# Altium footprint library CD4041UBM96.PcbLib: 1 footprints
Each footprint in its own frame and in the unit in brackets; x right, y up, seen from the top. Pads: shape width x height; smd on the part's side, far side on the other; paste and mask are expansions set on the pad; w line width, h text height; cw(c..) or ccw(c..) is an arc to the next point about the centre after c.
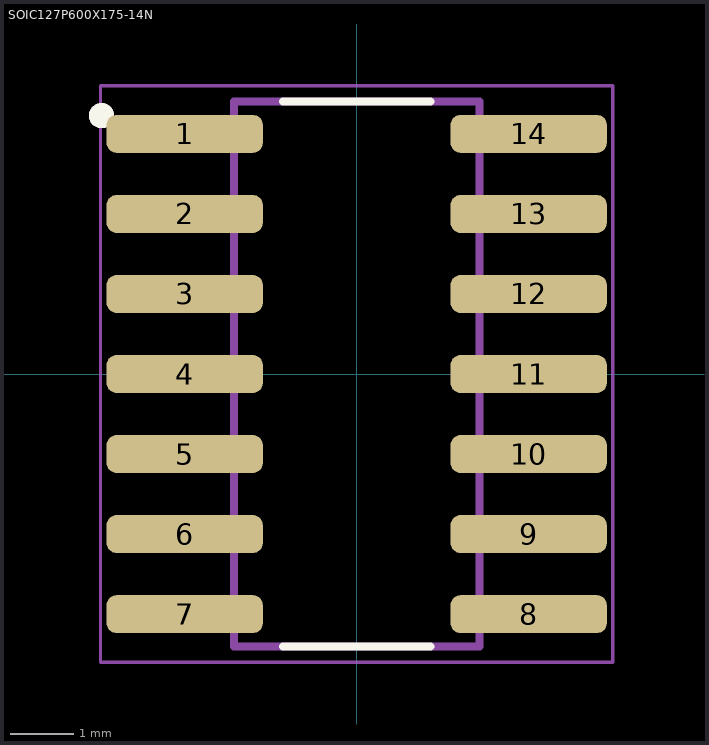
[diagram p0: the footprint, top view; thin cyan lines are the x and y axes]

## SOIC127P600X175-14N [mm]
pads (14):
  rrect50% 2.478x0.6 smd: 1(-2.729,3.81) 2(-2.729,2.54) 3(-2.729,1.27) 4(-2.729,0) 5(-2.729,-1.27) 6(-2.729,-2.54) 7(-2.729,-3.81) 8(2.729,-3.81) 9(2.729,-2.54) 10(2.729,-1.27) 11(2.729,0) 12(2.729,1.27) 13(2.729,2.54) 14(2.729,3.81)
Top Overlay:
  circle w0.2: c-4.05,4.1 r0.1
  lines w0.127: -1.17,-4.325 1.17,-4.325 ; -1.17,4.325 1.17,4.325
Mechanical 13:
  circle w0.2: c-4.05,4.1 r0.1
  lines w0.127: -1.95,-4.325 1.95,-4.325 1.95,4.325 -1.95,4.325 -1.95,-4.325
Mechanical 15:
  lines w0.05: -4.064,-4.575 4.064,-4.575 4.064,4.575 -4.064,4.575 -4.064,-4.575
3D body "CD4041UBM.STEP": height 1.75, standoff 0, extent -3,-4.325 3,4.325